# Altium footprint library CAP_POL_16x25_V.PcbLib: 1 footprints
Each footprint in its own frame and in the unit in brackets; x right, y up, seen from the top. Pads: shape width x height; smd on the part's side, far side on the other; paste and mask are expansions set on the pad; w line width, h text height; cw(c..) or ccw(c..) is an arc to the next point about the centre after c.
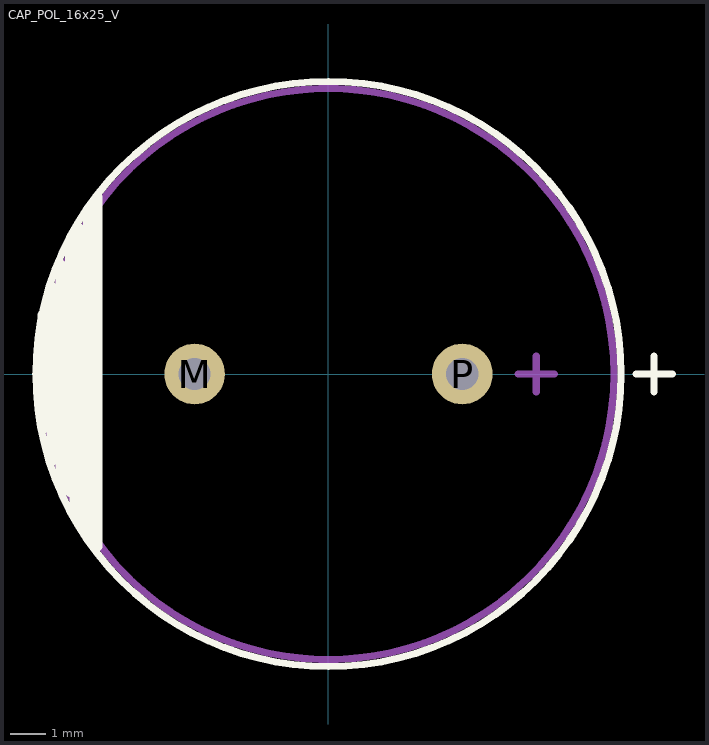
[diagram p0: the footprint, top view; thin cyan lines are the x and y axes]

## CAP_POL_16x25_V [mm]
pads (2):
  round 1.7 hole 0.9: M(-3.75,0) P(3.75,0)
Top Overlay:
  circle w0.2: c0,0 r8.2
  lines w0.2: 8.616,0 9.632,0 ; 9.124,-0.508 9.124,0.508
  lines w0.3: -8.001,-1.524 -8.001,1.651 ; -7.747,-2.413 -7.747,2.413 ; -7.493,3.048 -7.493,-3.048 -7.239,-3.302 -7.239,3.556 ; -7.112,-3.937 -7.112,3.937 -6.985,4.064 -6.985,-4.191 -6.731,-4.445 -6.731,4.572 -6.604,4.699 -6.604,-4.699 -6.477,-4.826 -6.477,4.953
Mechanical 13:
  circle w0.2: c0,0 r8
  lines w0.2: 5.314,0 6.33,0 ; 5.822,-0.508 5.822,0.508
  text ".Designator" at -2.159,-3.175 h2.5
3D body: height 25.01, standoff -2.7, extent -7.941,-8 8,8